# EAGLE library part IR2101 (library gateDriver)
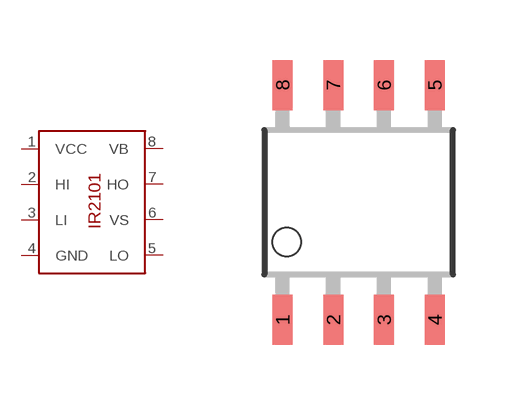
[diagram p1: symbol with the pads of SO08; footprint SO08]

Designator prefix -

## IR2101  [SO08]
1  VCC
2  HI
3  LI
4  GND
5  LO
6  VS
7  HO
8  VB

## Footprint SO08 (pad centres in mm)
Small Outline Package
smd 0.5 x 1.25: 1 -1.905,-2.934; 2 -0.635,-2.934; 3 0.635,-2.934; 4 1.905,-2.934; 5 1.905,2.934; 6 0.635,2.934; 7 -0.635,2.934; 8 -1.905,2.934